# Altium schematic symbol library this.SchLib: 1 symbol
Pins are listed as number, name and electrical type; pins without a type are passive.

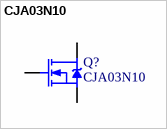
[diagram p0: symbol CJA03N10]

## CJA03N10
designator Q?
N沟道场效应管
footprint LC-SOT-89(SOT-89-3)
pins: 1 G, 2 D, 3 S